# Altium footprint library WE-CMB NiZn.PcbLib: 2 footprints
Each footprint in its own frame and in the unit in brackets; x right, y up, seen from the top. Pads: shape width x height; smd on the part's side, far side on the other; paste and mask are expansions set on the pad; w line width, h text height; cw(c..) or ccw(c..) is an arc to the next point about the centre after c.
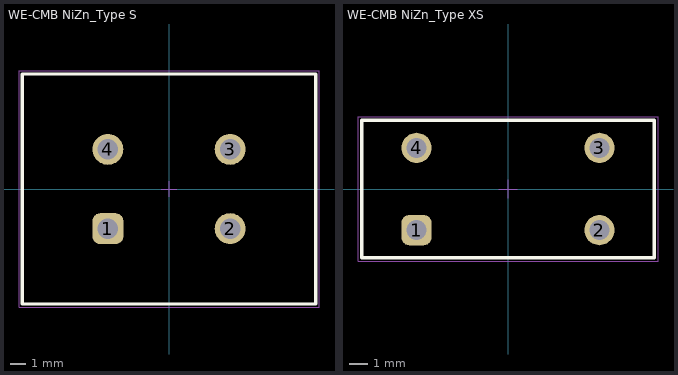
[diagram p0: the footprints below, top view; thin cyan lines are the x and y axes]

## WE-CMB NiZn_Type S [mm] "Common Mode  Power Line Choke, 4-Leads, body 18.5x14.5mm"
height 22
pads (4):
  rrect50% 1.95x1.95 hole 1.3: 1(-3.85,-2.5)
  round 1.95 hole 1.3: 2(3.85,-2.5) 3(3.85,2.5) 4(-3.85,2.5)
Top Overlay:
  lines w0.2: -9.25,-7.25 -9.25,7.25 9.25,7.25 9.25,-7.25 -9.25,-7.25
Top Designator:
  text ".Designator" at -7.498,-0.5 h1.5
Top Component Outline:
  lines w0.1: -9.25,-7.25 9.25,-7.25 9.25,7.25 -9.25,7.25 -9.25,-7.25
Top 3D Body:
  lines w0.1: -9.25,-7.25 -9.25,7.25 9.25,7.25 9.25,-7.25 -9.25,-7.25
Top Courtyard:
  lines w0.05: -0.5,0 0.5,0 ; 0,-0.5 0,0.5 ; -9.45,-7.45 9.45,-7.45 9.45,7.45 -9.45,7.45 -9.45,-7.45
3D body "IndCMB_NiZn_744842xxx_S.stp": height 19.65, standoff -3.4, extent -8.094,-6.525 8.094,6.524

## WE-CMB NiZn_Type XS [mm] "Common Mode  Power Line Choke, 4-Leads, body 16x7.5mm"
height 17.5
pads (4):
  rrect50% 1.65x1.65 hole 1.1: 1(-5,-2.25)
  round 1.65 hole 1.1: 2(5,-2.25) 3(5,2.25) 4(-5,2.25)
Top Overlay:
  lines w0.2: -8,-3.75 8,-3.75 8,3.75 -8,3.75 -8,-3.75
Top Designator:
  text ".Designator" at -7.498,-0.5 h1.5
Top Component Outline:
  lines w0.1: -8,-3.75 -8,3.75 8,3.75 8,-3.75 -8,-3.75
Top 3D Body:
  lines w0.1: -8,-3.75 8,-3.75 8,3.75 -8,3.75 -8,-3.75
Top Courtyard:
  lines w0.05: -0.5,0 0.5,0 ; 0,-0.5 0,0.5 ; -8.2,-3.95 -8.2,3.95 8.2,3.95 8.2,-3.95 -8.2,-3.95
3D body "744841210.stp": height 17.5, standoff -2.42, extent -7.103,-3.75 7.102,3.75